# Altium footprint library TPS7A3301.PcbLib: 1 footprints
Each footprint in its own frame and in the unit in brackets; x right, y up, seen from the top. Pads: shape width x height; smd on the part's side, far side on the other; paste and mask are expansions set on the pad; w line width, h text height; cw(c..) or ccw(c..) is an arc to the next point about the centre after c.
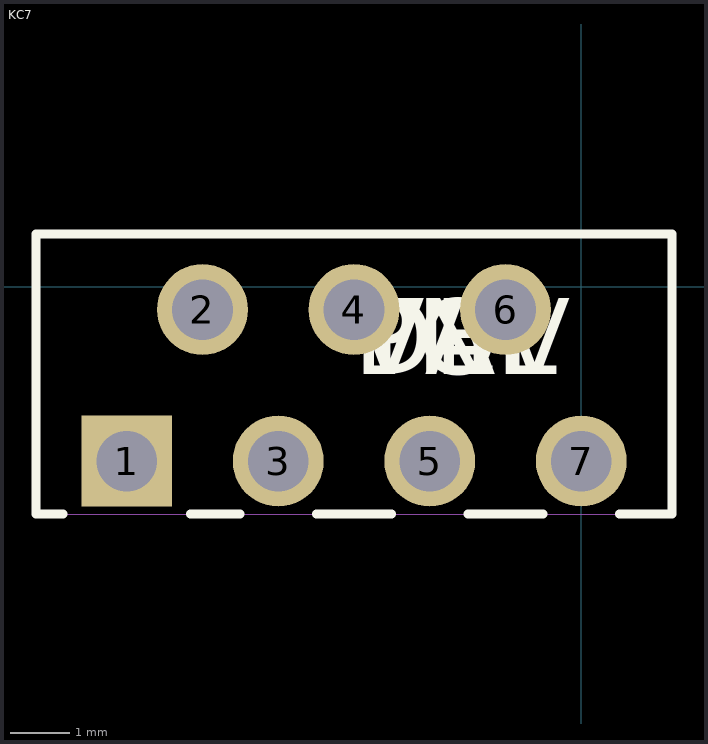
[diagram p0: the footprint, top view; thin cyan lines are the x and y axes]

## KC7 [mil]
pads (7):
  rect 60x60 / inner round 60 / far side rect 60x60 hole 40: 1(-300,-115)
  round 60 hole 40: 2(-250,-15) 3(-200,-115) 4(-150,-15) 5(-100,-115) 6(-50,-15) 7(0,-115)
Top Overlay:
  lines w6: -342.11,-150 -360,-150 -360,35 60,35 60,-150 25.15,-150 ; -257.89,-150 -225.15,-150 ; -174.85,-150 -125.15,-150 ; -74.85,-150 -25.15,-150
  text "PN" at -150,-57.5 h50
  text "DEV" at -150,-57.5 h50
  text "VAL" at -150,-57.5 h50
  text "TOL" at -150,-57.5 h50
Mechanical 1:
  lines w0: -360,-150 60,-150 60,35 -360,35 -360,-150
  text "RefDes2" at -150,-57.5 h50